# EAGLE library part MCP44XX (library LinnesLab-DigitalIC)
Exmple Devices MCP444X/6X http://ww1.microchip.com/downloads/en/DeviceDoc/22265a.pdf MCP443X/5X http://ww1.microchip.com/downloads/en/DeviceDoc/MCP4451.pdf
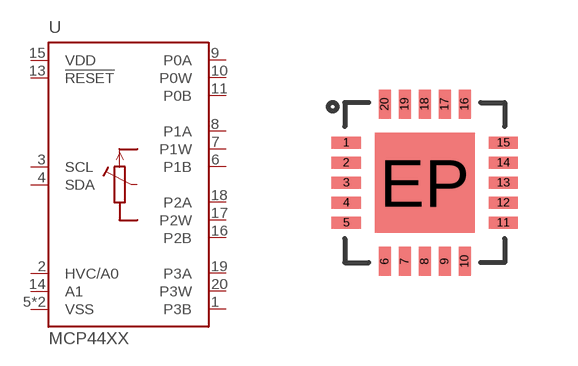
[diagram p14: symbol with the pads of 20-QFN; footprint 20-QFN]

Designator prefix U

## MCP44XX.20-QFN  [20-QFN]
1  P3B
2  HVC/A0
3  SCL
4  SDA
5  VSS
6  P1B
7  P1W
8  P1A
9  P0A
10  P0W
11  P0B
13  !RESET
14  A1
15  VDD
16  P2B
17  P2W
18  P2A
19  P3A
20  P3W
EP  VSS

## Footprint 20-QFN (pad centres in mm)
smd 0.73 x 0.3: 1 -1.965,1; 2 -1.965,0.5; 3 -1.965,0; 4 -1.965,-0.5; 5 -1.965,-1; 11 1.965,-1; 12 1.965,-0.5; 13 1.965,0; 14 1.965,0.5; 15 1.965,1
smd 0.3 x 0.73: 6 -1,-1.965; 7 -0.5,-1.965; 8 0,-1.965; 9 0.5,-1.965; 10 1,-1.965; 16 1,1.965; 17 0.5,1.965; 18 0,1.965; 19 -0.5,1.965; 20 -1,1.965
smd 2.5 x 2.5: EP 0,0